# Altium schematic symbol library TI.SchLib: 3 symbols
Pins are listed as number, name and electrical type; pins without a type are passive.

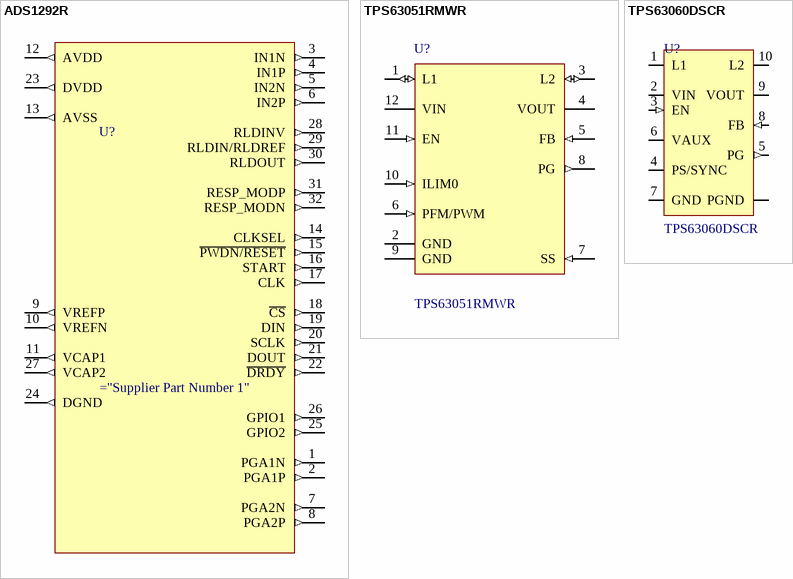
[diagram p0: symbols ADS1292R to TPS63060DSCR]

## ADS1292R
designator U?
2 Channel AFE 24 Bit 740µW; Manufacturer: Texas Instruments; Number of Bits: 24; Vin (analog): 2.7 V ~ 5.25 V; Vin (digital): 1.7 V ~ 3.6 V; Package: 12-VFQFN; Power (Watts): 740µW
pins: 1 PGA1N (out), 2 PGA1P (out), 3 IN1N (out), 4 IN1P (out), 5 IN2N (out), 6 IN2P (out), 7 PGA2N (out), 8 PGA2P (out), 9 VREFP (out), 10 VREFN (out), 11 VCAP1 (out), 12 AVDD (out), 13 AVSS (out), 14 CLKSEL (out), 15 ~{PWDN/RESET} (out), 16 START (out), 17 CLK (out), 18 ~{CS} (out), 19 DIN (out), 20 SCLK (out), 21 DOUT (out), 22 ~{DRDY} (out), 23 DVDD (out), 24 DGND (out), 25 GPIO2 (out), 26 GPIO1 (out), 27 VCAP2 (out), 28 RLDINV (out), 29 RLDIN/RLDREF (out), 30 RLDOUT (out), 31 RESP_MODP (out), 32 RESP_MODN (out)

## TPS63051RMWR
designator U?
Single Inductor Buck Boost Converter 12-VQFN; Manufacturer: Texas Instruments; Current - Output: 500mA; Vin Min: 2.5V; Vin Max: 5.5V; Freqency: 2.5MHz; Package: 12-VFQFN; MPN: TPS63051RMWR; Value: *
footprint QFN12P50_250X250X100 (12-VQFN (2.5x2.5))
pins: 1 L1 (io), 2 GND (power), 3 L2 (io), 4 VOUT (power), 5 FB (in), 6 PFM/PWM (in), 7 SS (in), 8 PG (out), 9 GND (power), 10 ILIM0 (in), 11 EN (in), 12 VIN (power)

## TPS63060DSCR
designator U?
2.5V to 12V input voltage, 93% Efficient, 2.25A Switch Current Limit, Buck-Boost Converter 10-WSON -40 to 85
footprint TI_DRC_S-PVSON-N10
pins: 1 L1, 2 VIN (power), 3 EN (in), 4 PS/SYNC, 5 PG (out), 6 VAUX, 7 GND (power), 8 FB (in), 9 VOUT (power), 10 L2, 11 PGND